# Altium footprint library NewSmartwatch.PcbLib: 41 footprints (part 1 of 3)
Each footprint in its own frame and in the unit in brackets; x right, y up, seen from the top. Pads: shape width x height; smd on the part's side, far side on the other; paste and mask are expansions set on the pad; w line width, h text height; cw(c..) or ccw(c..) is an arc to the next point about the centre after c.
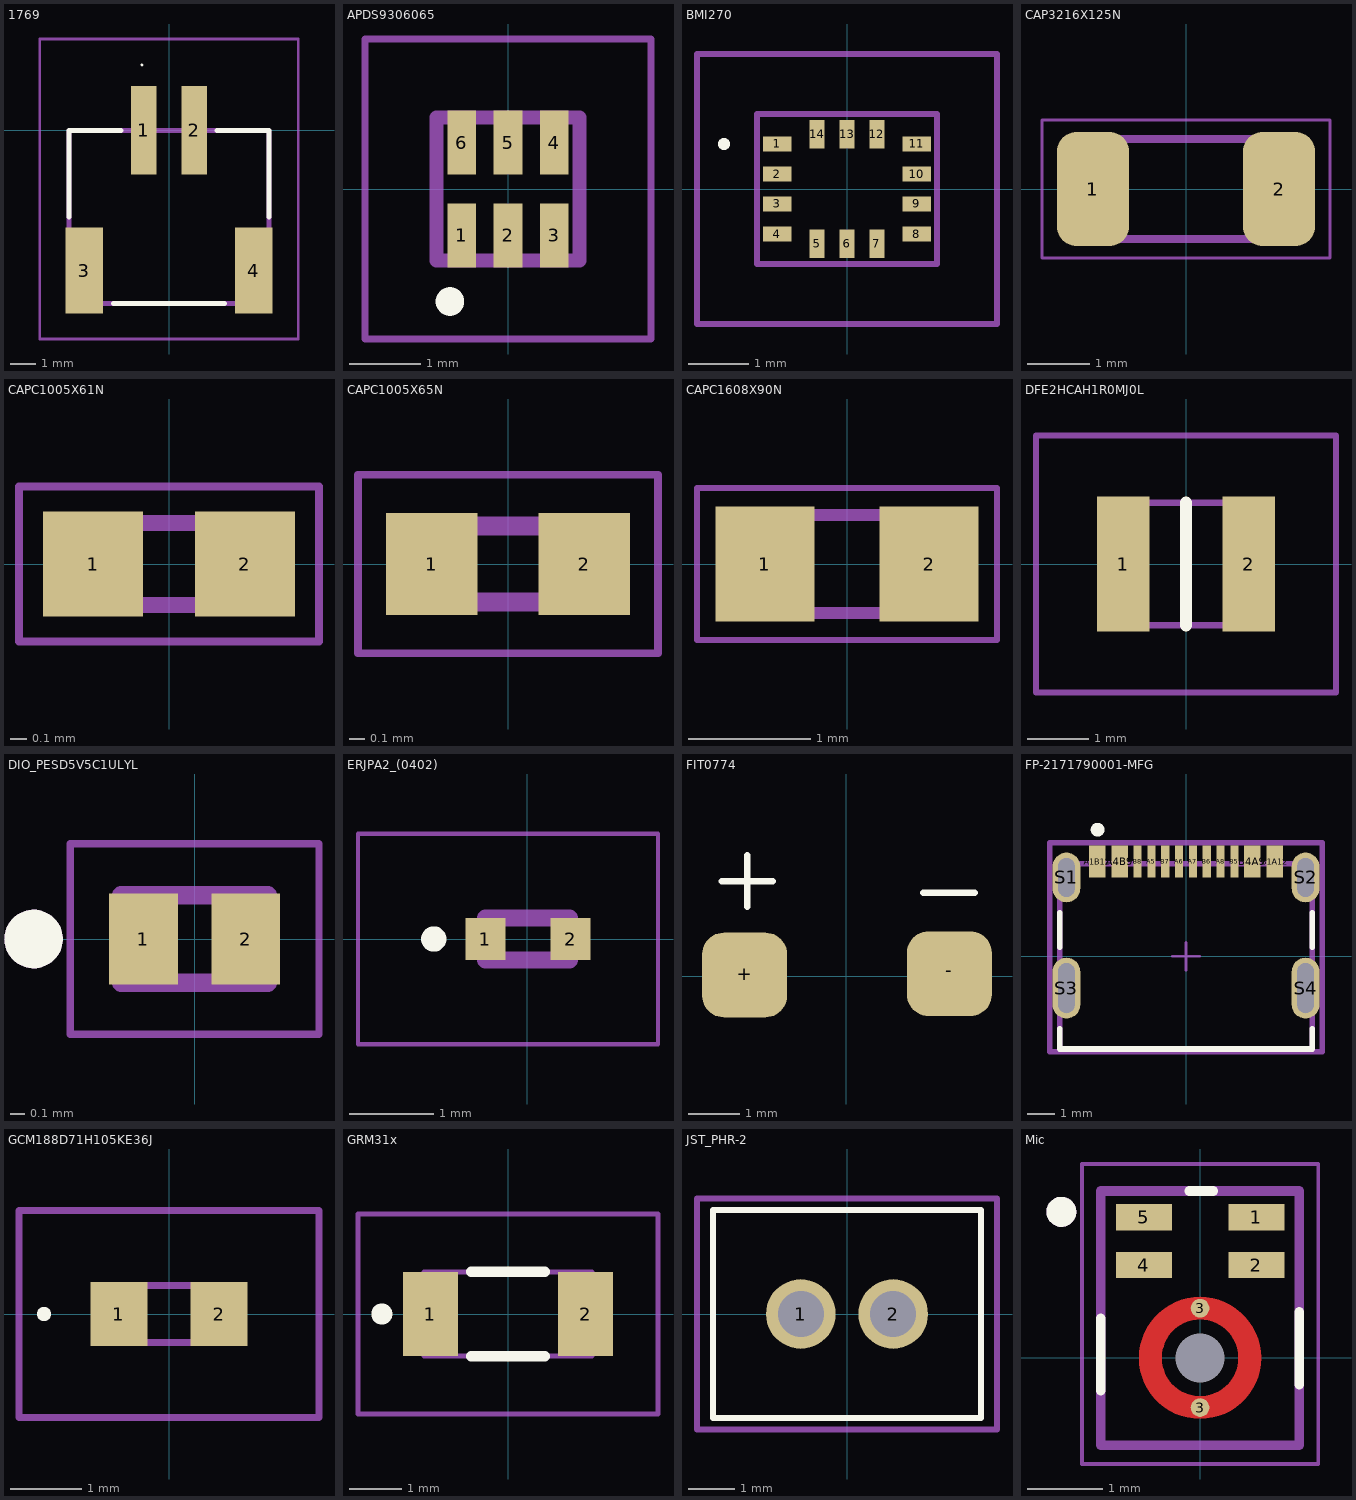
[diagram p0: the footprints below, top view; thin cyan lines are the x and y axes]

## 1769 [mm]
pads (4):
  rect 1x3.5 smd: 1(-1,0) 2(1,0)
  rect 1.5x3.4 smd: 3(-3.35,-5.55) 4(3.35,-5.55)
Top Overlay:
  lines w0.052: -1.095,2.582 cw(c-1.069,2.582) -1.043,2.582 cw(c-1.069,2.582) -1.095,2.582
  lines w0.2: -3.95,-3.425 -3.95,0 -1.9,0 ; -2.196,-6.849 2.196,-6.849 ; 1.9,0 3.95,0 3.95,-3.425
Mechanical 13:
  lines w0.2: -3.95,-6.849 -3.95,0 3.95,0 3.95,-6.849 -3.95,-6.849
Mechanical 15:
  lines w0.1: -5.1,-8.25 -5.1,3.608 5.1,3.608 5.1,-8.25 -5.1,-8.25
3D body "1769.stp": height 4.8, standoff 0, extent -3.95,-7.07 3.95,1.53

## APDS9306065 [mm]
pads (6):
  rect 0.4x0.9 smd mask+0.051: 1(-0.65,-0.65) 2(0,-0.65) 3(0.65,-0.65) 4(0.65,0.65) 5(0,0.65) 6(-0.65,0.65)
Top Overlay:
  lines w0.2: -0.813,-1.675 ccw(c-0.813,-1.575) -0.813,-1.475 ccw(c-0.813,-1.575) -0.813,-1.675
Mechanical 13:
  lines w0.2: -1,-1 -1,1 1,1 1,-1 -1,-1
Mechanical 15:
  lines w0.1: -2,-2.1 -2,2.1 2,2.1 2,-2.1 -2,-2.1
3D body "APDS-9306-065.stp": height 0.75, standoff 0, extent -1,-1 1,1

## BMI270 [mm]
pads (14):
  rect 0.475x0.25 smd mask+0.051: 1(-1.163,0.75) 2(-1.163,0.25) 3(-1.163,-0.25) 4(-1.163,-0.75) 8(1.163,-0.75) 9(1.163,-0.25) 10(1.163,0.25) 11(1.163,0.75)
  rect 0.25x0.475 smd mask+0.051: 5(-0.5,-0.913) 6(0,-0.913) 7(0.5,-0.913) 12(0.5,0.913) 13(0,0.913) 14(-0.5,0.913)
Top Overlay:
  lines w0.1: -2.1,0.75 ccw(c-2.05,0.75) -2,0.75 ccw(c-2.05,0.75) -2.1,0.75
Mechanical 13:
  lines w0.1: -1.5,-1.25 1.5,-1.25 1.5,1.25 -1.5,1.25 -1.5,-1.25
Mechanical 15:
  lines w0.1: -2.5,-2.25 2.5,-2.25 2.5,2.25 -2.5,2.25 -2.5,-2.25
3D body "BMI270.stp": height 0.97, standoff 0, extent -1.5,-1.25 1.5,1.25

## CAP3216X125N [mm]
pads (2):
  rrect54% 1.15x1.82 smd: 1(-1.485,0) 2(1.485,0)
Mechanical 13:
  lines w0.127: -1.6,-0.8 -1.6,0.8 1.6,0.8 1.6,-0.8 -1.6,-0.8
Mechanical 15:
  lines w0.05: -2.3,-1.1 -2.3,1.1 2.3,1.1 2.3,-1.1 -2.3,-1.1
3D body "step_temp.STEP": height 1.9, standoff 0, extent -1.6,-0.8 1.6,0.8

## CAPC1005X61N [mm]
pads (2):
  rect 0.62x0.65 smd: 1(-0.47,0) 2(0.47,0)
Mechanical 13:
  lines w0.1: -0.51,-0.255 -0.51,0.255 0.51,0.255 0.51,-0.255 -0.51,-0.255
Mechanical 15:
  lines w0.05: -0.93,-0.48 -0.93,0.48 0.93,0.48 0.93,-0.48 -0.93,-0.48
3D body "0402X7R104KT7AT.stp": height 0.61, standoff 0, extent -0.51,-0.255 0.51,0.255

## CAPC1005X65N [mm]
height 0.65
pads (2):
  rect 0.6x0.67 smd: 1(-0.5,0) 2(0.5,0)
Mechanical 13:
  lines w0.127: -0.5,-0.25 -0.5,0.25 0.5,0.25 0.5,-0.25 -0.5,-0.25
Mechanical 15:
  lines w0.05: -0.985,-0.585 -0.985,0.585 0.985,0.585 0.985,-0.585 -0.985,-0.585
3D body "step_temp.STEP": height 0.55, standoff 0, extent -0.5,-0.25 0.5,0.25

## CAPC1608X90N [mm]
pads (2):
  rect 0.81x0.94 smd: 1(-0.67,0) 2(0.67,0)
Mechanical 13:
  lines w0.1: -0.8,-0.4 -0.8,0.4 0.8,0.4 0.8,-0.4 -0.8,-0.4
Mechanical 15:
  lines w0.05: -1.225,-0.62 -1.225,0.62 1.225,0.62 1.225,-0.62 -1.225,-0.62
3D body "LMK107BJ106MALTD.stp": height 0.9, standoff 0, extent -0.8,-0.4 0.8,0.4

## DFE2HCAH1R0MJ0L [mm]
pads (2):
  rect 0.85x2.2 smd: 1(-1.025,0) 2(1.025,0)
Top Overlay:
  lines w0.2: 0,-1 0,1
Mechanical 13:
  lines w0.1: -1.25,-1 1.25,-1 1.25,1 -1.25,1 -1.25,-1
Mechanical 15:
  lines w0.1: -2.45,-2.1 2.45,-2.1 2.45,2.1 -2.45,2.1 -2.45,-2.1
3D body "1239AS-H-100M=P2.stp": height 1.2, standoff 0, extent -1.25,-1 1.25,1

## DIO_PESD5V5C1ULYL [mm]
pads (2):
  rect 0.47x0.62 smd paste-0.1 mask+0: 1(-0.35,0)
  rect 0.47x0.62 smd paste-0.096 mask+0: 2(0.35,0)
Top Overlay:
  circle w0.2: c-1.1,0 r0.1
Top Solder:
  drawing of 2 lines, arcs and shapes, not listed
Mechanical 13:
  circle w0.2: c-1.1,0 r0.1
  lines w0.127: -0.5,-0.3 -0.5,0.3 0.5,0.3 0.5,-0.3 -0.5,-0.3
Mechanical 15:
  lines w0.05: -0.85,-0.65 -0.85,0.65 0.85,0.65 0.85,-0.65 -0.85,-0.65
3D body "step_temp.STEP": height 0.5, standoff 0, extent -0.5,-0.3 0.5,0.3

## ERJPA2_(0402) [mm]
pads (2):
  rect 0.475x0.5 smd: 1(-0.5,0) 2(0.513,0)
Top Overlay:
  circle w0.2: c-1.112,0 r0.05
Mechanical 13:
  lines w0.2: -0.5,-0.25 -0.5,0.25 0.5,0.25 0.5,-0.25 -0.5,-0.25
Mechanical 15:
  lines w0.05: -2.013,-1.25 -2.013,1.25 1.55,1.25 1.55,-1.25 -2.013,-1.25
3D body "ERJ-PA2F4701X.stp": height 0.35, standoff 0, extent -0.5,-0.25 0.5,0.25

## FIT0774 [mm]
pads (2):
  rrect50% 1.65x1.65 smd paste-2539.97 mask-2539.97: +(-1.981,0.025) -(2.007,0.051)
Top Overlay:
  lines w0.127: -2.43,1.854 -1.43,1.854 ; -1.93,1.354 -1.93,2.354 ; 1.499,1.626 2.499,1.626
Top Solder:
  region: -2.908,-0.438 -2.908,0.489 -2.908,0.535 -2.89,0.624 -2.856,0.709 -2.805,0.784 -2.74,0.849 -2.664,0.9 -2.58,0.935 -2.49,0.953 -2.445,0.953 -1.518,0.953 -1.472,0.953 -1.382,0.935 -1.298,0.9 -1.222,0.849 -1.158,0.784 -1.107,0.709 -1.072,0.624 -1.054,0.535 -1.054,0.489 -1.054,-0.438 -1.054,-0.484 -1.072,-0.573 -1.107,-0.658 -1.158,-0.734 -1.222,-0.798 -1.298,-0.849 -1.382,-0.884 -1.472,-0.902 -1.518,-0.902 -2.445,-0.902 -2.49,-0.902 -2.58,-0.884 -2.664,-0.849 -2.74,-0.798 -2.805,-0.734 -2.856,-0.658 -2.89,-0.573 -2.908,-0.484
  region: 1.079,-0.413 1.079,0.514 1.079,0.56 1.097,0.65 1.132,0.734 1.183,0.81 1.248,0.874 1.323,0.925 1.408,0.96 1.497,0.978 1.543,0.978 2.47,0.978 2.516,0.978 2.605,0.96 2.69,0.925 2.766,0.874 2.83,0.81 2.881,0.734 2.916,0.65 2.934,0.56 2.934,0.514 2.934,-0.413 2.934,-0.458 2.916,-0.548 2.881,-0.632 2.83,-0.708 2.766,-0.773 2.69,-0.824 2.605,-0.858 2.516,-0.876 2.47,-0.876 1.543,-0.876 1.497,-0.876 1.408,-0.858 1.323,-0.824 1.248,-0.773 1.183,-0.708 1.132,-0.632 1.097,-0.548 1.079,-0.458

## FP-2171790001-MFG [mm]
pads (16):
  rect 0.6x1.15 smd paste+0 mask+0: A1B12(-3.2,3.425) A4B9(-2.4,3.425) B1A12(3.2,3.425) B4A9(2.4,3.425)
  rect 0.3x1.15 smd paste+0 mask+0: A5(-1.25,3.425) A6(-0.25,3.425) A7(0.25,3.425) A8(1.25,3.425) B5(1.75,3.425) B6(0.75,3.425) B7(-0.75,3.425) B8(-1.75,3.425)
  rrect100% 1x1.8 hole 1.4 slot 0.6 at 0 deg paste-2539.97 mask+0: S1(-4.32,2.85) S2(4.32,2.85)
  rrect100% 1x2.2 hole 1.8 slot 0.6 at 0 deg paste-2539.97 mask+0: S3(-4.32,-1.15) S4(4.32,-1.15)
Top Overlay:
  circle w0.25: c-3.195,4.575 r0.125
  lines w0.2: -4.57,-2.625 -4.57,-3.35 4.57,-3.35 4.57,-2.625 ; -4.57,0.325 -4.57,1.575 ; 4.57,0.325 4.57,1.575
Top 3D Body:
  lines w0.2: -4.57,-3.35 4.57,-3.35 4.57,3.35 -4.57,3.35 -4.57,-3.35
Top Courtyard:
  lines w0.2: -4.92,-3.45 4.92,-3.45 4.92,4.1 -4.92,4.1 -4.92,-3.45
Top Assembly:
  lines w0.2: -4.92,-3.45 4.92,-3.45 4.92,4.1 -4.92,4.1 -4.92,-3.45
  text ".Designator" at 0,0.513 h1
Top Component Center:
  lines w0.1: -0.5,0 0.5,0 ; 0,-0.5 0,0.5
3D body "Conn_Molex_2171790001_eec.STEP": height 0.25, standoff 0, extent -4.92,-3.45 4.92,4.1

## GCM188D71H105KE36J [mm]
pads (2):
  rect 0.8x0.9 smd: 1(-0.7,0) 2(0.7,0)
Top Overlay:
  lines w0.1: -1.8,0 cw(c-1.75,0) -1.7,0 cw(c-1.75,0) -1.8,0
Mechanical 13:
  lines w0.1: -0.8,-0.4 -0.8,0.4 0.8,0.4 0.8,-0.4 -0.8,-0.4
Mechanical 15:
  lines w0.1: -2.1,-1.45 -2.1,1.45 2.1,1.45 2.1,-1.45 -2.1,-1.45

## GRM31x [mm]
pads (2):
  rect 1.05x1.6 smd: 1(-1.475,0) 2(1.475,0)
Top Overlay:
  lines w0.2: -0.7,-0.8 0.7,-0.8 ; -0.7,0.8 0.7,0.8 ; -2.4,-0.1 ccw(c-2.4,0) -2.4,0.1 ccw(c-2.4,0) -2.4,-0.1
Mechanical 13:
  lines w0.1: -1.6,-0.8 -1.6,0.8 1.6,0.8 1.6,-0.8 -1.6,-0.8
Mechanical 15:
  lines w0.1: -2.854,-1.902 -2.854,1.902 2.854,1.902 2.854,-1.902 -2.854,-1.902
3D body "GRM31CZ72A475KE11K.stp": height 1, standoff 0, extent -1.6,-0.8 1.6,0.8

## JST_PHR-2 [mm]
pads (2):
  round 1.508 hole 1: 1(-1,0) 2(1,0)
Top Overlay:
  lines w0.127: -2.9,-2.25 2.9,-2.25 2.9,2.25 -2.9,2.25 -2.9,-2.25
Mechanical 15:
  lines w0.127: -3.25,-2.5 3.25,-2.5 3.25,2.5 -3.25,2.5 -3.25,-2.5
3D body "B2B-PH-K-S (LF)(SN)--3DModel-STEP-56544.STEP": height 6, standoff -3.4, extent -2.95,-2.25 2.95,2.25

## Mic [mm]
pads (7):
  rect 0.748x0.353 smd paste-0.05 mask+0.05: 1(0.75,1.875)
  rect 0.748x0.348 smd paste-0.048 mask+0.05: 2(0.75,1.236)
  round 0.25 smd paste-1 mask+0: 3(0,-0.662) 3(0,0.663)
  rect 0.748x0.348 smd paste-0.05 mask+0.05: 4(-0.75,1.236)
  rect 0.748x0.353 smd paste-0.033 mask+0.05: 5(-0.75,1.875)
  round 0.5 hole 0.65 unplated mask+0.613: ""(0,0)
Top Layer:
  region: 0.085,0.808 0.169,0.795 0.251,0.773 0.33,0.742 0.406,0.704 0.478,0.657 0.544,0.604 0.604,0.544 0.657,0.478 0.704,0.406 0.742,0.33 0.773,0.251 0.795,0.169 0.808,0.085 0.813,0 0.512,0 0.51,0.054 0.501,0.107 0.487,0.158 0.468,0.208 0.444,0.256 0.415,0.301 0.381,0.343 0.343,0.381 0.301,0.415 0.256,0.444 0.208,0.468 0.158,0.487 0.107,0.501 0.054,0.51 0,0.512 -0.054,0.51 -0.107,0.501 -0.158,0.487 -0.208,0.468 -0.256,0.444 -0.301,0.415 -0.343,0.381 -0.381,0.343 -0.415,0.301 -0.444,0.256 -0.468,0.208 -0.487,0.158 -0.501,0.107 -0.51,0.054 -0.512,0 -0.813,0 -0.808,0.085 -0.795,0.169 -0.773,0.251 -0.742,0.33 -0.704,0.406 -0.657,0.478 -0.604,0.544 -0.544,0.604 -0.478,0.657 -0.406,0.704 -0.33,0.742 -0.251,0.773 -0.169,0.795 -0.085,0.808 0,0.813
  region: 0.808,-0.085 0.795,-0.169 0.773,-0.251 0.742,-0.33 0.704,-0.406 0.657,-0.478 0.604,-0.544 0.544,-0.604 0.478,-0.657 0.406,-0.704 0.33,-0.742 0.251,-0.773 0.169,-0.795 0.085,-0.808 0,-0.812 -0.085,-0.808 -0.169,-0.795 -0.251,-0.773 -0.33,-0.742 -0.406,-0.704 -0.478,-0.657 -0.544,-0.604 -0.604,-0.544 -0.657,-0.478 -0.704,-0.406 -0.742,-0.33 -0.773,-0.251 -0.795,-0.169 -0.808,-0.085 -0.813,0 -0.512,0 -0.51,-0.054 -0.501,-0.107 -0.487,-0.158 -0.468,-0.208 -0.444,-0.256 -0.415,-0.301 -0.381,-0.343 -0.343,-0.381 -0.301,-0.415 -0.256,-0.444 -0.208,-0.468 -0.158,-0.487 -0.107,-0.501 -0.054,-0.51 0,-0.512 0.054,-0.51 0.107,-0.501 0.158,-0.487 0.208,-0.468 0.256,-0.444 0.301,-0.415 0.343,-0.381 0.381,-0.343 0.415,-0.301 0.444,-0.256 0.468,-0.208 0.487,-0.158 0.501,-0.107 0.51,-0.054 0.512,0 0.813,0
Top Overlay:
  circle w0.2: c-1.85,1.947 r0.1
  lines w0.127: -1.325,-0.44 -1.325,0.53 ; -0.145,2.225 0.175,2.225 ; 1.325,-0.357 1.325,0.613
Top Paste:
  drawing of 4 lines, arcs and shapes, not listed
Mechanical 13:
  circle w0.2: c-1.85,1.947 r0.1
  lines w0.127: 1.325,-1.165 -1.325,-1.165 -1.325,2.225 1.325,2.225 1.325,1.488 1.325,-0.262 1.325,-1.137
Mechanical 15:
  lines w0.05: -1.575,-1.415 1.575,-1.415 1.575,2.585 -1.575,2.585 -1.575,-1.415
3D body "step_temp.STEP": height 0.98, standoff 0, extent -1.275,-1.24 1.375,2.26